# EAGLE library part 613016216921 (library Wurth_Elektronik2)
WR-PHD 2.54mm Dual S. Header Bottom Entry Large, 16 Pins=>Code : Con_BTB_SHD_2.54_2_613016216921 <http://katalog.we-online.de/media/images/eican/Con_BTB_SHD_2.54_2_6130xx216921_pf2.jpg> Details see: http://katalog.we-online.de/en/em/613_0xx_216_921 Created 2014-05-30, Karrer Zheng 2014 (C) Würth Elektronik
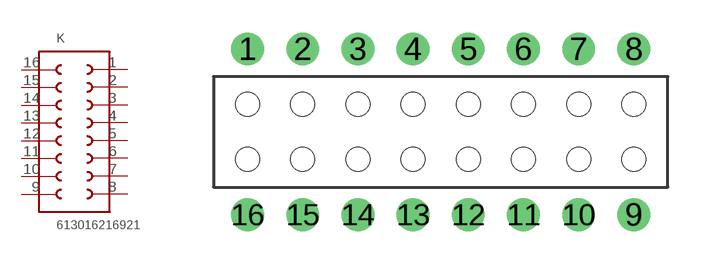
[diagram p172: symbol with the pads of 613016216921; footprint 613016216921]

Designator prefix K

## 613016216921  [613016216921]
1  1  pas
2  2  pas
3  3  pas
4  4  pas
5  5  pas
6  6  pas
7  7  pas
8  8  pas
9  9  pas
10  10  pas
11  11  pas
12  12  pas
13  13  pas
14  14  pas
15  15  pas
16  16  pas

## Footprint 613016216921 (pad centres in mm)
WR-PHD 2.54mm Dual S. Header Bottom Entry Large, 16 Pins
drill 1: 1 -6.35,3.81; 2 -3.81,3.81; 3 -1.27,3.81; 4 1.27,3.81; 5 3.81,3.81; 6 6.35,3.81; 7 8.89,3.81; 8 11.43,3.81; 9 11.43,-3.81; 10 8.89,-3.81; 11 6.35,-3.81; 12 3.81,-3.81; 13 1.27,-3.81; 14 -1.27,-3.81; 15 -3.81,-3.81; 16 -6.35,-3.81
hole 1.1 at -6.35,1.27
hole 1.1 at -3.81,1.27
hole 1.1 at -1.27,1.27
hole 1.1 at 1.27,1.27
hole 1.1 at 3.81,1.27
hole 1.1 at 6.35,1.27
hole 1.1 at 6.35,-1.27
hole 1.1 at 3.81,-1.27
hole 1.1 at 1.27,-1.27
hole 1.1 at -1.27,-1.27
hole 1.1 at -3.81,-1.27
hole 1.1 at -6.35,-1.27
hole 1.1 at 8.89,1.27
hole 1.1 at 8.89,-1.27
hole 1.1 at 11.43,1.27
hole 1.1 at 11.43,-1.27